# Altium schematic symbol library Si7021-A20.SchLib: 1 symbol
Pins are listed as number, name and electrical type; pins without a type are passive.

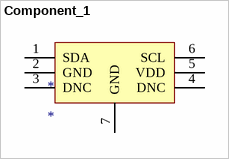
[diagram p0: symbol Component_1]

## Component_1
designator *
footprint Model Name (Footprint not found)
footprint SON100P300X121_HS-7N (SON, 6-Leads, Body 3,00x3,00mm, Pitch 1,00mm, Thermal Pad 1,60x0,12mm, IPC Medium Density)
pins: 1 SDA, 2 GND, 3 DNC, 4 DNC, 5 VDD, 6 SCL, 7 GND